# Altium footprint library PCB - CRYSTALS - NDK NX3225GD.PCBLIB: 1 footprints
Each footprint in its own frame and in the unit in brackets; x right, y up, seen from the top. Pads: shape width x height; smd on the part's side, far side on the other; paste and mask are expansions set on the pad; w line width, h text height; cw(c..) or ccw(c..) is an arc to the next point about the centre after c.
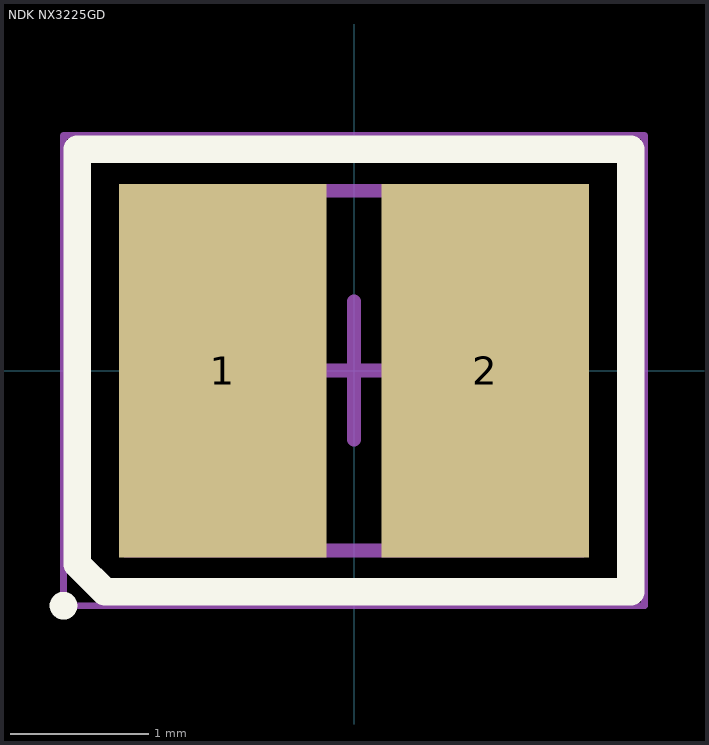
[diagram p0: the footprint, top view; thin cyan lines are the x and y axes]

## NDK NX3225GD [mm] "Crystal, 2-Leads, Body 2.50x3.20mm"
height 1
pads (2):
  rect 1.5x2.7 smd: 1(-0.95,0) 2(0.95,0)
Top Overlay:
  circle w0.1: c-2.1,-1.7 r0.05
  lines w0.2: -2,-1.4 -2,1.6 2,1.6 2,-1.6 -1.8,-1.6 -2,-1.4
Mechanical 13:
  lines w0.1: -1.65,-1.3 -1.65,1.3 1.65,1.3 1.65,-1.3 -1.65,-1.3
Mechanical 15:
  lines w0.05: -2.1,-1.7 -2.1,1.7 2.1,1.7 2.1,-1.7 -2.1,-1.7
  lines w0.1: -0.5,0 0.5,0 ; 0,-0.5 0,0.5
3D body "NDK NX3225GD.step": height 1, standoff 0, extent -1.6,-1.25 1.6,1.25